# EAGLE library part MAX481CUA+ (library MAX481CUA_)
Low-Power Slew-Rate-Limited RS-485/RS-422 Transce
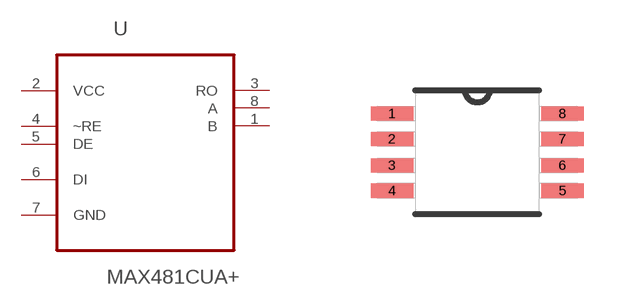
[diagram p0: symbol with the pads of SOP65P490X110-8N; footprint SOP65P490X110-8N]

Designator prefix U

## MAX481CUA+ (Availability: Bad; Description: IC TXRX RS485/RS422 5V 8-UMAX; MF: Maxim Integrated; MP: MAX481CUA+; Package: MSOP-8 Maxim Integrated; Price: 1.77 USD)  [SOP65P490X110-8N]
1  B
2  VCC  pwr
3  RO  out
4  ~RE  in
5  DE  in
6  DI  in
7  GND  pas
8  A

## Footprint SOP65P490X110-8N (pad centres in mm)
smd 1.067 x 0.356: 1 -2.134,0.965; 2 -2.134,0.33; 3 -2.134,-0.33; 4 -2.134,-0.965; 5 2.134,-0.965; 6 2.134,-0.33; 7 2.134,0.33; 8 2.134,0.965